# EAGLE library part MK66FX1M0VMD18 (library mk66fx1m0vmd18)
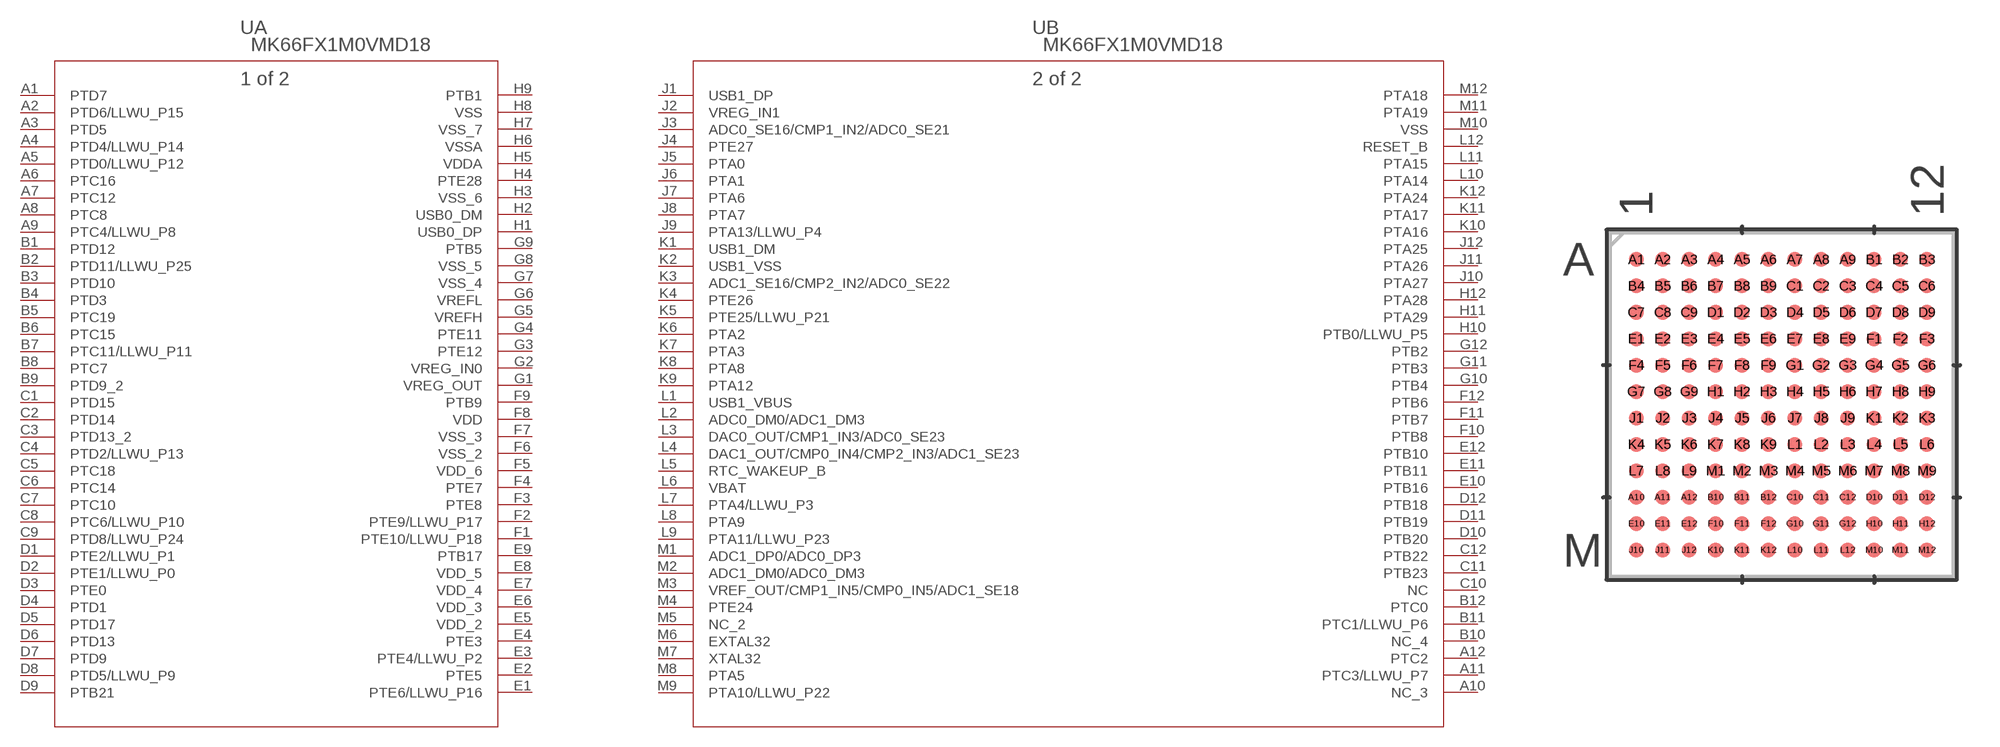
[diagram p0: symbol with the pads of 98ASA00222D; footprint 98ASA00222D]

Designator prefix U; gates A=MK66FX1M0VMD18_A B=MK66FX1M0VMD18_B

## MK66FX1M0VMD18 (MANUFACTURER_PART_NUMBER: mk66fx1m0vmd18; VENDOR: Freescale)  [98ASA00222D]
A1  A:PTD7  pas
A2  A:PTD6/LLWU_P15  pas
A3  A:PTD5  pas
A4  A:PTD4/LLWU_P14  pas
A5  A:PTD0/LLWU_P12  pas
A6  A:PTC16  pas
A7  A:PTC12  pas
A8  A:PTC8  pas
A9  A:PTC4/LLWU_P8  pas
A10  B:NC_3  nc
A11  B:PTC3/LLWU_P7  pas
A12  B:PTC2  pas
B1  A:PTD12  pas
B2  A:PTD11/LLWU_P25  pas
B3  A:PTD10  pas
B4  A:PTD3  pas
B5  A:PTC19  pas
B6  A:PTC15  pas
B7  A:PTC11/LLWU_P11  pas
B8  A:PTC7  pas
B9  A:PTD9_2  pas
B10  B:NC_4  nc
B11  B:PTC1/LLWU_P6  pas
B12  B:PTC0  pas
C1  A:PTD15  pas
C2  A:PTD14  pas
C3  A:PTD13_2  pas
C4  A:PTD2/LLWU_P13  pas
C5  A:PTC18  pas
C6  A:PTC14  pas
C7  A:PTC10  pas
C8  A:PTC6/LLWU_P10  pas
C9  A:PTD8/LLWU_P24  pas
C10  B:NC  nc
C11  B:PTB23  pas
C12  B:PTB22  pas
D1  A:PTE2/LLWU_P1  pas
D2  A:PTE1/LLWU_P0  pas
D3  A:PTE0  pas
D4  A:PTD1  pas
D5  A:PTD17  pas
D6  A:PTD13  pas
D7  A:PTD9  pas
D8  A:PTD5/LLWU_P9  pas
D9  A:PTB21  pas
D10  B:PTB20  pas
D11  B:PTB19  pas
D12  B:PTB18  pas
E1  A:PTE6/LLWU_P16  pas
E2  A:PTE5  pas
E3  A:PTE4/LLWU_P2  pas
E4  A:PTE3  pas
E5  A:VDD_2  pwr
E6  A:VDD_3  pwr
E7  A:VDD_4  pwr
E8  A:VDD_5  pwr
E9  A:PTB17  pas
E10  B:PTB16  pas
E11  B:PTB11  pas
E12  B:PTB10  pas
F1  A:PTE10/LLWU_P18  pas
F2  A:PTE9/LLWU_P17  pas
F3  A:PTE8  pas
F4  A:PTE7  pas
F5  A:VDD_6  pwr
F6  A:VSS_2  pwr
F7  A:VSS_3  pwr
F8  A:VDD  pwr
F9  A:PTB9  pas
F10  B:PTB8  pas
F11  B:PTB7  pas
F12  B:PTB6  pas
G1  A:VREG_OUT  out
G2  A:VREG_IN0  in
G3  A:PTE12  pas
G4  A:PTE11  pas
G5  A:VREFH  pwr
G6  A:VREFL  pwr
G7  A:VSS_4  pwr
G8  A:VSS_5  pwr
G9  A:PTB5  pas
G10  B:PTB4  pas
G11  B:PTB3  pas
G12  B:PTB2  pas
H1  A:USB0_DP  pas
H2  A:USB0_DM  pas
H3  A:VSS_6  pwr
H4  A:PTE28  pas
H5  A:VDDA  pwr
H6  A:VSSA  pwr
H7  A:VSS_7  pwr
H8  A:VSS  pwr
H9  A:PTB1  pas
H10  B:PTB0/LLWU_P5  pas
H11  B:PTA29  pas
H12  B:PTA28  pas
J1  B:USB1_DP  pas
J2  B:VREG_IN1  in
J3  B:ADC0_SE16/CMP1_IN2/ADC0_SE21  pas
J4  B:PTE27  pas
J5  B:PTA0  pas
J6  B:PTA1  pas
J7  B:PTA6  pas
J8  B:PTA7  pas
J9  B:PTA13/LLWU_P4  pas
J10  B:PTA27  pas
J11  B:PTA26  pas
J12  B:PTA25  pas
K1  B:USB1_DM  pas
K2  B:USB1_VSS  pwr
K3  B:ADC1_SE16/CMP2_IN2/ADC0_SE22  pas
K4  B:PTE26  pas
K5  B:PTE25/LLWU_P21  pas
K6  B:PTA2  pas
K7  B:PTA3  pas
K8  B:PTA8  pas
K9  B:PTA12  pas
K10  B:PTA16  pas
K11  B:PTA17  pas
K12  B:PTA24  pas
L1  B:USB1_VBUS  pas
L2  B:ADC0_DM0/ADC1_DM3  pas
L3  B:DAC0_OUT/CMP1_IN3/ADC0_SE23  pas
L4  B:DAC1_OUT/CMP0_IN4/CMP2_IN3/ADC1_SE23  pas
L5  B:RTC_WAKEUP_B  pas
L6  B:VBAT  pwr
L7  B:PTA4/LLWU_P3  pas
L8  B:PTA9  pas
L9  B:PTA11/LLWU_P23  pas
L10  B:PTA14  pas
L11  B:PTA15  pas
L12  B:RESET_B  pas
M1  B:ADC1_DP0/ADC0_DP3  pas
M2  B:ADC1_DM0/ADC0_DM3  pas
M3  B:VREF_OUT/CMP1_IN5/CMP0_IN5/ADC1_SE18  pas
M4  B:PTE24  pas
M5  B:NC_2  nc
M6  B:EXTAL32  pas
M7  B:XTAL32  pas
M8  B:PTA5  pas
M9  B:PTA10/LLWU_P22  pas
M10  B:VSS  pwr
M11  B:PTA19  pas
M12  B:PTA18  pas

## Footprint 98ASA00222D (pad centres in mm)
smd 0.559 x 0.559: A1 -5.5,5.5; A2 -4.5,5.5; A3 -3.5,5.5; A4 -2.5,5.5; A5 -1.5,5.5; A6 -0.5,5.5; A7 0.5,5.5; A8 1.5,5.5; A9 2.5,5.5; A10 -5.5,-3.5; A11 -4.5,-3.5; A12 -3.5,-3.5; B1 3.5,5.5; B2 4.5,5.5; B3 5.5,5.5; B4 -5.5,4.5; B5 -4.5,4.5; B6 -3.5,4.5; B7 -2.5,4.5; B8 -1.5,4.5; B9 -0.5,4.5; B10 -2.5,-3.5; B11 -1.5,-3.5; B12 -0.5,-3.5; C1 0.5,4.5; C2 1.5,4.5; C3 2.5,4.5; C4 3.5,4.5; C5 4.5,4.5; C6 5.5,4.5; C7 -5.5,3.5; C8 -4.5,3.5; C9 -3.5,3.5; C10 0.5,-3.5; C11 1.5,-3.5; C12 2.5,-3.5; D1 -2.5,3.5; D2 -1.5,3.5; D3 -0.5,3.5; D4 0.5,3.5; D5 1.5,3.5; D6 2.5,3.5; D7 3.5,3.5; D8 4.5,3.5; D9 5.5,3.5; D10 3.5,-3.5; D11 4.5,-3.5; D12 5.5,-3.5; E1 -5.5,2.5; E2 -4.5,2.5; E3 -3.5,2.5; E4 -2.5,2.5; E5 -1.5,2.5; E6 -0.5,2.5; E7 0.5,2.5; E8 1.5,2.5; E9 2.5,2.5; E10 -5.5,-4.5; E11 -4.5,-4.5; E12 -3.5,-4.5; F1 3.5,2.5; F2 4.5,2.5; F3 5.5,2.5; F4 -5.5,1.5; F5 -4.5,1.5; F6 -3.5,1.5; F7 -2.5,1.5; F8 -1.5,1.5; F9 -0.5,1.5; F10 -2.5,-4.5; F11 -1.5,-4.5; F12 -0.5,-4.5; G1 0.5,1.5; G2 1.5,1.5; G3 2.5,1.5; G4 3.5,1.5; G5 4.5,1.5; G6 5.5,1.5; G7 -5.5,0.5; G8 -4.5,0.5; G9 -3.5,0.5; G10 0.5,-4.5; G11 1.5,-4.5; G12 2.5,-4.5; H1 -2.5,0.5; H2 -1.5,0.5; H3 -0.5,0.5; H4 0.5,0.5; H5 1.5,0.5; H6 2.5,0.5; H7 3.5,0.5; H8 4.5,0.5; H9 5.5,0.5; H10 3.5,-4.5; H11 4.5,-4.5; H12 5.5,-4.5; J1 -5.5,-0.5; J2 -4.5,-0.5; J3 -3.5,-0.5; J4 -2.5,-0.5; J5 -1.5,-0.5; J6 -0.5,-0.5; J7 0.5,-0.5; J8 1.5,-0.5; J9 2.5,-0.5; J10 -5.5,-5.5; J11 -4.5,-5.5; J12 -3.5,-5.5; K1 3.5,-0.5; K2 4.5,-0.5; K3 5.5,-0.5; K4 -5.5,-1.5; K5 -4.5,-1.5; K6 -3.5,-1.5; K7 -2.5,-1.5; K8 -1.5,-1.5; K9 -0.5,-1.5; K10 -2.5,-5.5; K11 -1.5,-5.5; K12 -0.5,-5.5; L1 0.5,-1.5; L2 1.5,-1.5; L3 2.5,-1.5; L4 3.5,-1.5; L5 4.5,-1.5; L6 5.5,-1.5; L7 -5.5,-2.5; L8 -4.5,-2.5; L9 -3.5,-2.5; L10 0.5,-5.5; L11 1.5,-5.5; L12 2.5,-5.5; M1 -2.5,-2.5; M2 -1.5,-2.5; M3 -0.5,-2.5; M4 0.5,-2.5; M5 1.5,-2.5; M6 2.5,-2.5; M7 3.5,-2.5; M8 4.5,-2.5; M9 5.5,-2.5; M10 3.5,-5.5; M11 4.5,-5.5; M12 5.5,-5.5